# Altium footprint library inductors.PcbLib: 86 footprints (part 5 of 6)
Each footprint in its own frame and in the unit in brackets; x right, y up, seen from the top. Pads: shape width x height; smd on the part's side, far side on the other; paste and mask are expansions set on the pad; w line width, h text height; cw(c..) or ccw(c..) is an arc to the next point about the centre after c.
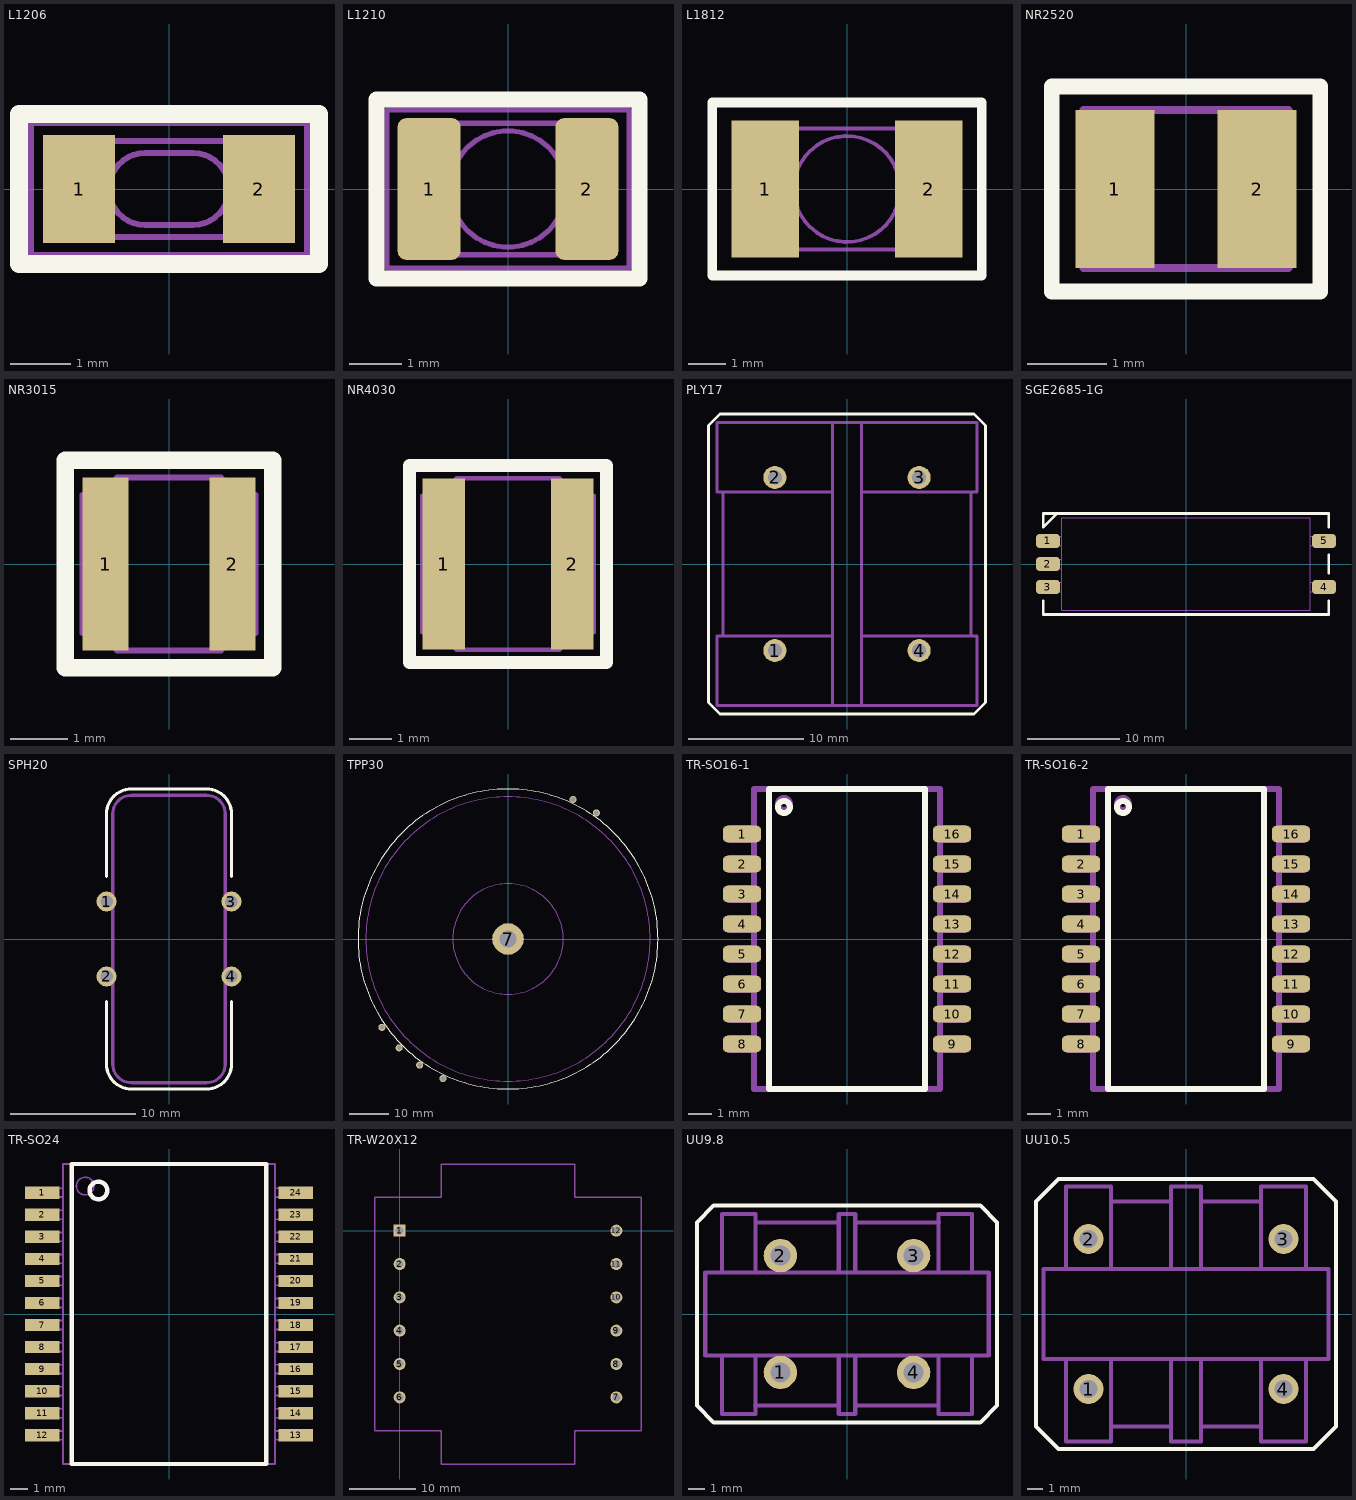
[diagram p4: the footprints below, top view; thin cyan lines are the x and y axes]

## L1206 [mm] "LQH31"
height 1.8
pads (2):
  rect 1.2x1.8 smd: 1(-1.5,0) 2(1.5,0)
Top Overlay:
  lines w0.3: -2.5,-1.25 -2.5,1.25 2.5,1.25 2.5,-1.25 -2.5,-1.25
Mechanical 1:
  lines w0.1: -1.6,-0.8 1.6,-0.8 1.6,0.8 -1.6,0.8 -1.6,-0.8 ; -0.4,-0.6 cw(c-0.4,0) -0.4,0.6 0.4,0.6 cw(c0.4,0) 0.4,-0.6 -0.4,-0.6
Mechanical 5:
  lines w0.1: -2.3,-1.1 2.3,-1.1 2.3,1.1 -2.3,1.1 -2.3,-1.1
  text ".Designator" at -2,-0.8 h1.5
Mechanical 6:
  lines w0.1: -2.3,-1.1 -2.3,1.1 2.3,1.1 2.3,-1.1 -2.3,-1.1
  text ".Comment" at -2,-0.8 h1.5
3D body: height 1.3, standoff 0.3, extent -0.694,-0.699 0.7,0.699
3D body: height 0.5, standoff 0, extent -1.6,-0.8 1.6,0.8
3D body: height 1.8, standoff 1.3, extent -1.1,-0.8 1.1,0.8

## L1210 [mm] "LQH32"
height 1.6
pads (2):
  rrect30% 1.2x2.7 smd: 1(-1.5,0) 2(1.5,0)
Top Overlay:
  lines w0.3: -2.5,-1.7 2.5,-1.7 2.5,1.7 -2.5,1.7 -2.5,-1.7
Mechanical 1:
  circle w0.1: c0,0 r1.105
  lines w0.1: -1.6,-1.25 -1.6,1.25 1.6,1.25 1.6,-1.25 -1.6,-1.25
Mechanical 5:
  lines w0.1: -2.3,-1.5 -2.3,1.5 2.3,1.5 2.3,-1.5 -2.3,-1.5
  text ".Designator" at -2,-0.8 h1.5
Mechanical 6:
  lines w0.1: -2.3,-1.5 2.3,-1.5 2.3,1.5 -2.3,1.5 -2.3,-1.5
  text ".Comment" at -2,-0.8 h1.5
3D body: height 1.3, standoff 0.3, extent -1.097,-1.101 1.095,1.095
3D body: height 0.45, standoff 0, extent -1.6,-1.3 1.6,1.3
3D body: height 1.6, standoff 1.15, extent -1.3,-1.3 1.3,1.3

## L1812 [mil] "LQH43"
height 102.36
pads (2):
  rect 70x142 smd: 1(-85,0) 2(85,0)
Top Overlay:
  lines w10: -140,-90 140,-90 140,90 -140,90 -140,-90
Mechanical 1:
  circle w3.94: c0,0 r55.12
  lines w3.94: -90.55,-62.99 -90.55,62.99 90.55,62.99 90.55,-62.99 -90.55,-62.99
3D body: height 102.36, standoff 74.8, extent -70.87,-62.99 70.87,62.99
3D body: height 27.56, standoff 0, extent -90.55,-62.99 90.55,62.99
3D body: height 82.68, standoff 19.68, extent -54.9,-55.12 54.9,54.9

## NR2520 [mm] "2.5x2 mm unshielded inductor"
height 1.2
pads (2):
  rect 1x2 smd: 1(-0.9,0) 2(0.9,0)
Top Overlay:
  lines w0.2: -1.7,-1.3 1.7,-1.3 1.7,1.3 -1.7,1.3 -1.7,-1.3
Mechanical 1:
  lines w0.1: -1.3,-0.8 -1,-0.8 -0.8,-1 ; -1.3,0.8 -1,0.8 -0.8,1 ; 0.8,-1 1,-0.8 1.3,-0.8 ; 0.8,1 1,0.8 1.3,0.8 ; -1.3,-1 1.3,-1 1.3,1 -1.3,1 -1.3,-1
Mechanical 5:
  lines w0.1: -1.7,-1.3 1.7,-1.3 1.7,1.3 -1.7,1.3 -1.7,-1.3
  text ".Designator" at -1.5,-0.8 h1.5
Mechanical 6:
  lines w0.1: -1.7,-1.3 -1.7,1.3 1.7,1.3 1.7,-1.3 -1.7,-1.3
  text ".Comment" at -1.5,-0.8 h1.5
3D body: height 0.4, standoff 0.05, extent -1.3,-1 1.3,1
3D body: height 1.2, standoff 0.8, extent -1.3,-1 1.3,1

## NR3015 [mm] "3x3 mm unshielded inductor"
height 1.5
pads (2):
  rect 0.8x3 smd: 1(-1.1,0) 2(1.1,0)
Top Overlay:
  lines w0.3: -1.8,-1.8 1.8,-1.8 1.8,1.8 -1.8,1.8 -1.8,-1.8
Mechanical 1:
  lines w0.1: -1.2,-1.2 -0.9,-1.5 0.9,-1.5 1.2,-1.2 ; -1.2,-1.2 -1.5,-1.2 -1.5,1.2 -1.2,1.2 ; -1.2,-1.2 -1.2,1.2 ; -1.2,1.2 -0.9,1.5 0.9,1.5 1.2,1.2 ; 1.2,-1.2 1.5,-1.2 1.5,1.2 1.2,1.2 ; 1.2,-1.2 1.2,1.2
Mechanical 5:
  lines w0.1: -1.8,-1.8 1.8,-1.8 1.8,1.8 -1.8,1.8 -1.8,-1.8
  text ".Designator" at -1.5,-0.8 h1.5
Mechanical 6:
  lines w0.1: -1.8,-1.8 -1.8,1.8 1.8,1.8 1.8,-1.8 -1.8,-1.8
  text ".Comment" at -1.5,-0.8 h1.5
3D body: height 1.5, standoff 1, extent -1.4,-1.5 1.4,1.5
3D body: height 0.5, standoff 0.05, extent -1.5,-1.5 1.5,1.5

## NR4030 [mm] "4x4 mm unshielded inductor"
height 3
pads (2):
  rect 1x4 smd: 1(-1.5,0) 2(1.5,0)
Top Overlay:
  lines w0.3: -2.3,-2.3 2.3,-2.3 2.3,2.3 -2.3,2.3 -2.3,-2.3
Mechanical 1:
  lines w0.1: -1.6,-1.6 -1.6,1.6 ; -1.6,-1.6 -1.2,-2 1.2,-2 1.6,-1.6 ; -1.6,-1.6 -2,-1.6 -2,1.6 -1.6,1.6 ; -1.6,1.6 -1.2,2 1.2,2 1.6,1.6 ; 1.6,-1.6 1.6,1.6 ; 1.6,-1.6 2,-1.6 2,1.6 1.6,1.6
Mechanical 5:
  lines w0.1: -2.3,-2.3 2.3,-2.3 2.3,2.3 -2.3,2.3 -2.3,-2.3
  text ".Designator" at -1.5,-0.8 h1.5
Mechanical 6:
  lines w0.1: -2.3,-2.3 -2.3,2.3 2.3,2.3 2.3,-2.3 -2.3,-2.3
  text ".Comment" at -1.5,-0.8 h1.5
3D body: height 3, standoff 2, extent -1.8,-2 1.8,2
3D body: height 1, standoff 0.05, extent -2,-2 2,2

## PLY17 [mm]
pads (4):
  round 2 hole 1.2: 1(-6.25,-7.5) 2(-6.25,7.5) 3(6.25,7.5) 4(6.25,-7.5)
Top Overlay:
  lines w0.25: -12,-12 -11,-13 11,-13 12,-12 12,12 11,13 -11,13 -12,12 -12,-12
Mechanical 1:
  lines w0.25: -10.75,-6.25 -10.75,6.25 ; -1.25,-12.25 -1.25,12.25 ; -1.25,-6.25 -11.25,-6.25 -11.25,-12.25 11.25,-12.25 11.25,-6.25 1.25,-6.25 ; -1.25,6.25 -11.25,6.25 -11.25,12.25 11.25,12.25 11.25,6.25 1.25,6.25 ; 1.25,-12.25 1.25,12.25 ; 10.75,-6.25 10.75,6.25

## SGE2685-1G [mm]
height 7.3
pads (5):
  rrect50% 2.6x1.5 smd: 1(-15,2.5) 2(-15,0) 3(-15,-2.5) 4(15,-2.5) 5(15,2.5)
Top Overlay:
  lines w0.3: -15.5,-4 -15.5,-5.5 15.5,-5.5 15.5,-4 ; -14,5.5 -15.5,4 -15.5,5.5 15.5,5.5 15.5,4 ; 15.5,-1 15.5,1
Mechanical 1:
  lines w0.1: -13.5,-3 -15.5,-3 -15.5,-2 -13.5,-2 ; -13.5,-0.5 -15.5,-0.5 -15.5,0.5 -13.5,0.5 ; -13.5,2 -15.5,2 -15.5,3 -13.5,3 ; 13.5,-3 15.5,-3 15.5,-2 13.5,-2 ; 13.5,2 15.5,2 15.5,3 13.5,3 ; -13.5,-5 -13.5,5 13.5,5 13.5,-5 -13.5,-5
3D body: height 7.3, standoff 5, extent -13,-5 13,5
3D body: height 1.1, standoff 0, extent 13,-2.75 15.5,-2.25
3D body: height 1.1, standoff 0, extent 13,2.25 15.5,2.75
3D body: height 1.1, standoff 0, extent -15.5,-2.75 -13,-2.25
3D body: height 1.1, standoff 0, extent -15.5,2.25 -13,2.75
3D body: height 1.1, standoff 0, extent -15.5,-0.25 -13,0.25
3D body: height 7, standoff 0.5, extent -13.5,-3 13.5,3
3D body: height 4.8, standoff 0.2, extent -12,-4.5 -8.5,4.5
3D body: height 4.8, standoff 0.2, extent 8.5,-4.5 12,4.5
3D body: height 4.8, standoff 0.2, extent 4.5,-4.5 8,4.5
3D body: height 4.8, standoff 0.2, extent 0.5,-4.5 4,4.5
3D body: height 4.8, standoff 0.2, extent -3.5,-4.5 0,4.5

## SPH20 [mm]
pads (4):
  round 1.6 hole 1: 1(-5,3) 2(-5,-3) 3(5,3) 4(5,-3)
Top Overlay:
  lines w0.25: -5,-5 -5,-10 ccw(c-3,-10) -3,-12 3,-12 ccw(c3,-10) 5,-10 5,-5 ; -5,5 -5,10 cw(c-3,10) -3,12 3,12 cw(c3,10) 5,10 5,5
Mechanical 1:
  lines w0.25: -4.5,-10 ccw(c-3,-10) -3,-11.5 3,-11.5 ccw(c3,-10) 4.5,-10 4.5,10 ccw(c3,10) 3,11.5 -3,11.5 ccw(c-3,10) -4.5,10 -4.5,-10

## TPP30 [mm]
pads (7):
  round 1.8 hole 1.2: 1(22.369,31.947) 2(16.482,35.346) 3(-31.947,-22.369) 4(-27.577,-27.577) 5(-22.369,-31.947) 6(-16.482,-35.346)
  round 8 hole 4.2 unplated: 7(0,0)
Top Overlay:
  circle w0.25: c0,0 r38
Mechanical 1:
  circle w0.25: c0,0 r36
  circle w0.25: c0,0 r14

## TR-SO16-1 [mm]
height 2
pads (16):
  rrect50% 1.6x0.7 smd: 1(-4.445,4.445) 2(-4.445,3.175) 3(-4.445,1.905) 4(-4.445,0.635) 5(-4.445,-0.635) 6(-4.445,-1.905) 7(-4.445,-3.175) 8(-4.445,-4.445) 9(4.445,-4.445) 10(4.445,-3.175) 11(4.445,-1.905) 12(4.445,-0.635) 13(4.445,0.635) 14(4.445,1.905) 15(4.445,3.175) 16(4.445,4.445)
Top Overlay:
  circle w0.254: c-2.667,5.588 r0.254
  lines w0.254: -3.302,-6.35 -3.302,6.35 3.302,6.35 3.302,-6.35 -3.302,-6.35
Mechanical 1:
  circle w0.254: c-2.667,5.715 r0.254
  lines w0.254: -3.937,-4.699 -4.953,-4.699 -4.953,-4.191 -3.937,-4.191 ; -3.937,-3.429 -4.953,-3.429 -4.953,-2.921 -3.937,-2.921 ; -3.937,-2.159 -4.953,-2.159 -4.953,-1.651 -3.937,-1.651 ; -3.937,-0.889 -4.953,-0.889 -4.953,-0.381 -3.937,-0.381 ; -3.937,0.381 -4.953,0.381 -4.953,0.889 -3.937,0.889 ; -3.937,1.651 -4.953,1.651 -4.953,2.159 -3.937,2.159 ; -3.937,2.921 -4.953,2.921 -4.953,3.429 -3.937,3.429 ; -3.937,4.191 -4.953,4.191 -4.953,4.699 -3.937,4.699 ; -3.302,-6.35 -3.302,6.35 ; 3.937,-4.699 4.953,-4.699 4.953,-4.191 3.937,-4.191 ; 3.937,-3.429 4.953,-3.429 4.953,-2.921 3.937,-2.921 ; 3.937,-2.159 4.953,-2.159 4.953,-1.651 3.937,-1.651 ; 3.937,-0.889 4.953,-0.889 4.953,-0.381 3.937,-0.381 ; 3.937,0.381 4.953,0.381 4.953,0.889 3.937,0.889 ; 3.937,1.651 4.953,1.651 4.953,2.159 3.937,2.159 ; 3.937,2.921 4.953,2.921 4.953,3.429 3.937,3.429 ; 3.937,4.191 4.953,4.191 4.953,4.699 3.937,4.699 ; -3.937,-6.35 -3.937,6.35 3.937,6.35 3.937,-6.35 -3.937,-6.35
3D body: height 1.1, standoff 0, extent 2.519,-4.695 5.019,-4.195
3D body: height 1.1, standoff 0, extent 2.519,-3.425 5.019,-2.925
3D body: height 1.1, standoff 0, extent 2.519,-0.885 5.019,-0.385
3D body: height 1.1, standoff 0, extent 2.519,-2.155 5.019,-1.655
3D body: height 1.1, standoff 0, extent 2.519,2.925 5.019,3.425
3D body: height 1.1, standoff 0, extent 2.519,4.195 5.019,4.695
3D body: height 1.1, standoff 0, extent 2.519,1.655 5.019,2.155
3D body: height 1.1, standoff 0, extent 2.519,0.385 5.019,0.885
3D body: height 1.1, standoff 0, extent -5.019,-0.885 -2.519,-0.385
3D body: height 1.1, standoff 0, extent -5.019,-2.155 -2.519,-1.655
3D body: height 1.1, standoff 0, extent -5.019,-4.695 -2.519,-4.195
3D body: height 1.1, standoff 0, extent -5.019,-3.425 -2.519,-2.925
3D body: height 1.1, standoff 0, extent -5.019,1.655 -2.519,2.155
3D body: height 1.1, standoff 0, extent -5.019,0.385 -2.519,0.885
3D body: height 1.1, standoff 0, extent -5.019,2.925 -2.519,3.425
3D body: height 1.1, standoff 0, extent -5.019,4.195 -2.519,4.695
3D body: height 2, standoff 0.3, extent -3.81,-6.35 3.81,6.35
3D body: height 2.1, standoff 1.9, extent -3.039,4.58 -2.04,5.58

## TR-SO16-2 [mm]
height 5.5
pads (16):
  rrect50% 1.6x0.7 smd: 1(-4.445,4.445) 2(-4.445,3.175) 3(-4.445,1.905) 4(-4.445,0.635) 5(-4.445,-0.635) 6(-4.445,-1.905) 7(-4.445,-3.175) 8(-4.445,-4.445) 9(4.445,-4.445) 10(4.445,-3.175) 11(4.445,-1.905) 12(4.445,-0.635) 13(4.445,0.635) 14(4.445,1.905) 15(4.445,3.175) 16(4.445,4.445)
Top Overlay:
  circle w0.254: c-2.667,5.588 r0.254
  lines w0.254: -3.302,-6.35 -3.302,6.35 3.302,6.35 3.302,-6.35 -3.302,-6.35
Mechanical 1:
  circle w0.254: c-2.667,5.715 r0.254
  lines w0.254: -3.937,-4.699 -4.953,-4.699 -4.953,-4.191 -3.937,-4.191 ; -3.937,-3.429 -4.953,-3.429 -4.953,-2.921 -3.937,-2.921 ; -3.937,-2.159 -4.953,-2.159 -4.953,-1.651 -3.937,-1.651 ; -3.937,-0.889 -4.953,-0.889 -4.953,-0.381 -3.937,-0.381 ; -3.937,0.381 -4.953,0.381 -4.953,0.889 -3.937,0.889 ; -3.937,1.651 -4.953,1.651 -4.953,2.159 -3.937,2.159 ; -3.937,2.921 -4.953,2.921 -4.953,3.429 -3.937,3.429 ; -3.937,4.191 -4.953,4.191 -4.953,4.699 -3.937,4.699 ; -3.302,-6.35 -3.302,6.35 ; 3.937,-4.699 4.953,-4.699 4.953,-4.191 3.937,-4.191 ; 3.937,-3.429 4.953,-3.429 4.953,-2.921 3.937,-2.921 ; 3.937,-2.159 4.953,-2.159 4.953,-1.651 3.937,-1.651 ; 3.937,-0.889 4.953,-0.889 4.953,-0.381 3.937,-0.381 ; 3.937,0.381 4.953,0.381 4.953,0.889 3.937,0.889 ; 3.937,1.651 4.953,1.651 4.953,2.159 3.937,2.159 ; 3.937,2.921 4.953,2.921 4.953,3.429 3.937,3.429 ; 3.937,4.191 4.953,4.191 4.953,4.699 3.937,4.699 ; -3.937,-6.35 -3.937,6.35 3.937,6.35 3.937,-6.35 -3.937,-6.35
3D body: height 1.1, standoff 0, extent 2.519,-4.695 5.019,-4.195
3D body: height 1.1, standoff 0, extent 2.519,-3.425 5.019,-2.925
3D body: height 1.1, standoff 0, extent 2.519,-0.885 5.019,-0.385
3D body: height 1.1, standoff 0, extent 2.519,-2.155 5.019,-1.655
3D body: height 1.1, standoff 0, extent 2.519,2.925 5.019,3.425
3D body: height 1.1, standoff 0, extent 2.519,4.195 5.019,4.695
3D body: height 1.1, standoff 0, extent 2.519,1.655 5.019,2.155
3D body: height 1.1, standoff 0, extent 2.519,0.385 5.019,0.885
3D body: height 1.1, standoff 0, extent -5.019,-0.885 -2.519,-0.385
3D body: height 1.1, standoff 0, extent -5.019,-2.155 -2.519,-1.655
3D body: height 1.1, standoff 0, extent -5.019,-4.695 -2.519,-4.195
3D body: height 1.1, standoff 0, extent -5.019,-3.425 -2.519,-2.925
3D body: height 1.1, standoff 0, extent -5.019,1.655 -2.519,2.155
3D body: height 1.1, standoff 0, extent -5.019,0.385 -2.519,0.885
3D body: height 1.1, standoff 0, extent -5.019,2.925 -2.519,3.425
3D body: height 1.1, standoff 0, extent -5.019,4.195 -2.519,4.695
3D body: height 5.5, standoff 0.3, extent -3.556,-6.35 3.556,6.35
3D body: height 5.6, standoff 5.4, extent -3.039,4.58 -2.04,5.58

## TR-SO24 [mm]
height 5.6
pads (24):
  rect 2x0.7 smd: 1(-7.3,6.985) 2(-7.3,5.715) 3(-7.3,4.445) 4(-7.3,3.175) 5(-7.3,1.905) 6(-7.3,0.635) 7(-7.3,-0.635) 8(-7.3,-1.905) 9(-7.3,-3.175) 10(-7.3,-4.445) 11(-7.3,-5.715) 12(-7.3,-6.985) 13(7.3,-6.985) 14(7.3,-5.715) 15(7.3,-4.445) 16(7.3,-3.175) 17(7.3,-1.905) 18(7.3,-0.635) 19(7.3,0.635) 20(7.3,1.905) 21(7.3,3.175) 22(7.3,4.445) 23(7.3,5.715) 24(7.3,6.985)
Top Overlay:
  circle w0.254: c-4.064,7.112 r0.508
  lines w0.254: -5.588,-8.636 5.588,-8.636 5.588,8.636 -5.588,8.636 -5.588,-8.636
Mechanical 1:
  circle w0.1: c-4.826,7.366 r0.508
  lines w0.1: -6.096,-7.239 -8.128,-7.239 -8.128,-6.731 -6.096,-6.731 ; -6.096,-5.969 -8.128,-5.969 -8.128,-5.461 -6.096,-5.461 ; -6.096,-4.699 -8.128,-4.699 -8.128,-4.191 -6.096,-4.191 ; -6.096,-3.429 -8.128,-3.429 -8.128,-2.921 -6.096,-2.921 ; -6.096,-2.159 -8.128,-2.159 -8.128,-1.651 -6.096,-1.651 ; -6.096,-0.889 -8.128,-0.889 -8.128,-0.381 -6.096,-0.381 ; -6.096,0.381 -8.128,0.381 -8.128,0.889 -6.096,0.889 ; -6.096,1.651 -8.128,1.651 -8.128,2.159 -6.096,2.159 ; -6.096,2.921 -8.128,2.921 -8.128,3.429 -6.096,3.429 ; -6.096,4.191 -8.128,4.191 -8.128,4.699 -6.096,4.699 ; -6.096,5.461 -8.128,5.461 -8.128,5.969 -6.096,5.969 ; -6.096,6.731 -8.128,6.731 -8.128,7.239 -6.096,7.239 ; 6.096,-7.239 8.128,-7.239 8.128,-6.731 6.096,-6.731 ; 6.096,-5.969 8.128,-5.969 8.128,-5.461 6.096,-5.461 ; 6.096,-4.699 8.128,-4.699 8.128,-4.191 6.096,-4.191 ; 6.096,-3.429 8.128,-3.429 8.128,-2.921 6.096,-2.921 ; 6.096,-2.159 8.128,-2.159 8.128,-1.651 6.096,-1.651 ; 6.096,-0.889 8.128,-0.889 8.128,-0.381 6.096,-0.381 ; 6.096,0.381 8.128,0.381 8.128,0.889 6.096,0.889 ; 6.096,1.651 8.128,1.651 8.128,2.159 6.096,2.159 ; 6.096,2.921 8.128,2.921 8.128,3.429 6.096,3.429 ; 6.096,4.191 8.128,4.191 8.128,4.699 6.096,4.699 ; 6.096,5.461 8.128,5.461 8.128,5.969 6.096,5.969 ; 6.096,6.731 8.128,6.731 8.128,7.239 6.096,7.239 ; -6.096,-8.636 6.096,-8.636 6.096,8.636 -6.096,8.636 -6.096,-8.636
3D body: height 5.6, standoff 5.4, extent -5.325,6.866 -4.326,7.866
3D body: height 5.5, standoff 0.3, extent -6.096,-8.636 6.096,8.636
3D body: height 1.1, standoff 0, extent 5.501,-7.235 8.001,-6.735
3D body: height 1.1, standoff 0, extent 5.501,-5.965 8.001,-5.465
3D body: height 1.1, standoff 0, extent 5.501,-3.425 8.001,-2.925
3D body: height 1.1, standoff 0, extent 5.501,-4.695 8.001,-4.195
3D body: height 1.1, standoff 0, extent 5.501,0.385 8.001,0.885
3D body: height 1.1, standoff 0, extent 5.501,1.655 8.001,2.155
3D body: height 1.1, standoff 0, extent 5.501,-0.885 8.001,-0.385
3D body: height 1.1, standoff 0, extent 5.501,-2.155 8.001,-1.655
3D body: height 1.1, standoff 0, extent 5.501,5.465 8.001,5.965
3D body: height 1.1, standoff 0, extent 5.501,6.735 8.001,7.235
3D body: height 1.1, standoff 0, extent 5.501,4.195 8.001,4.695
3D body: height 1.1, standoff 0, extent 5.501,2.925 8.001,3.425
3D body: height 1.1, standoff 0, extent -8.001,-3.425 -5.501,-2.925
3D body: height 1.1, standoff 0, extent -8.001,-4.695 -5.501,-4.195
3D body: height 1.1, standoff 0, extent -8.001,-7.235 -5.501,-6.735
3D body: height 1.1, standoff 0, extent -8.001,-5.965 -5.501,-5.465
3D body: height 1.1, standoff 0, extent -8.001,1.655 -5.501,2.155
3D body: height 1.1, standoff 0, extent -8.001,0.385 -5.501,0.885
3D body: height 1.1, standoff 0, extent -8.001,-2.155 -5.501,-1.655
3D body: height 1.1, standoff 0, extent -8.001,-0.885 -5.501,-0.385
3D body: height 1.1, standoff 0, extent -8.001,4.195 -5.501,4.695
3D body: height 1.1, standoff 0, extent -8.001,2.925 -5.501,3.425
3D body: height 1.1, standoff 0, extent -8.001,5.465 -5.501,5.965
3D body: height 1.1, standoff 0, extent -8.001,6.735 -5.501,7.235

## TR-W20X12 [mm]
pads (12):
  rect 1.8x1.8 hole 1.2: 1(0,0)
  round 1.8 hole 1.2: 2(0,-5) 3(0,-10) 4(0,-15) 5(0,-20) 6(0,-25) 7(32.5,-25) 8(32.5,-20) 9(32.5,-15) 10(32.5,-10) 11(32.5,-5) 12(32.5,0)
Mechanical 1:
  lines w0.2: -3.75,-30 6.25,-30 6.25,-35 26.25,-35 26.25,-30 36.25,-30 36.25,5 26.25,5 26.25,10 6.25,10 6.25,5 -3.75,5 -3.75,-30

## UU9.8 [mm]
height 17
pads (4):
  round 2 hole 1.2: 1(-4,-3.5) 2(-4,3.5) 3(4,3.5) 4(4,-3.5)
Top Overlay:
  lines w0.25: -9,-5.5 -9,5.5 -8,6.5 8,6.5 9,5.5 9,-5.5 8,-6.5 -8,-6.5 -9,-5.5
Mechanical 1:
  lines w0.25: -7.5,-2.5 -7.5,-6 -5.5,-6 -5.5,-2.5 ; -7.5,2.5 -7.5,6 -5.5,6 -5.5,2.5 ; -5.5,-5.5 -0.5,-5.5 ; -5.5,5.5 -0.5,5.5 ; -0.5,-2.5 -0.5,-6 0.5,-6 0.5,-2.5 ; -0.5,2.5 -0.5,6 0.5,6 0.5,2.5 ; 0.5,-5.5 5.5,-5.5 ; 0.5,5.5 5.5,5.5 ; 5.5,-2.5 5.5,-6 7.5,-6 7.5,-2.5 ; 5.5,2.5 5.5,6 7.5,6 7.5,2.5 ; -8.5,-2.5 8.5,-2.5 8.5,2.5 -8.5,2.5 -8.5,-2.5
3D body: height 14, standoff 0.2, extent 5.5,-6 7.5,6
3D body: height 13.49, standoff 2.5, extent -6,-5.499 6,5.499
3D body: height 14, standoff 0.2, extent -7.5,-6 -5.5,6
3D body: height 17, standoff 4, extent -8.5,-2.5 8.5,2.5

## UU10.5 [mm]
height 23
pads (4):
  round 2 hole 1.2: 1(-6.5,-5) 2(-6.5,5) 3(6.5,5) 4(6.5,-5)
Top Overlay:
  lines w0.25: -10,-7.5 -10,7.5 -8.5,9 8.5,9 10,7.5 10,-7.5 8.5,-9 -8.5,-9 -10,-7.5
Mechanical 1:
  lines w0.25: -8,-3 -8,-8.5 -5,-8.5 -5,-3 ; -8,3 -8,8.5 -5,8.5 -5,3 ; -5,-7.5 -1,-7.5 ; -5,7.5 -1,7.5 ; -1,-3 -1,-8.5 1,-8.5 1,-3 ; -1,3 -1,8.5 1,8.5 1,3 ; 1,-7.5 5,-7.5 ; 1,7.5 5,7.5 ; 5,-3 5,-8.5 8,-8.5 8,-3 ; 5,3 5,8.5 8,8.5 8,3 ; -9.5,-3 9.5,-3 9.5,3 -9.5,3 -9.5,-3
3D body: height 17.99, standoff 2, extent -6,-7.998 6,7.998
3D body: height 18, standoff 0.2, extent 5,-8.5 8,8.5
3D body: height 18, standoff 0.2, extent -8,-8.5 -5,8.5
3D body: height 23, standoff 5, extent -9.5,-3 9.5,3